# Altium schematic symbol library kmilo17pet-TI_MSP430.SchLib: 1463 symbols (part 124 of 130)
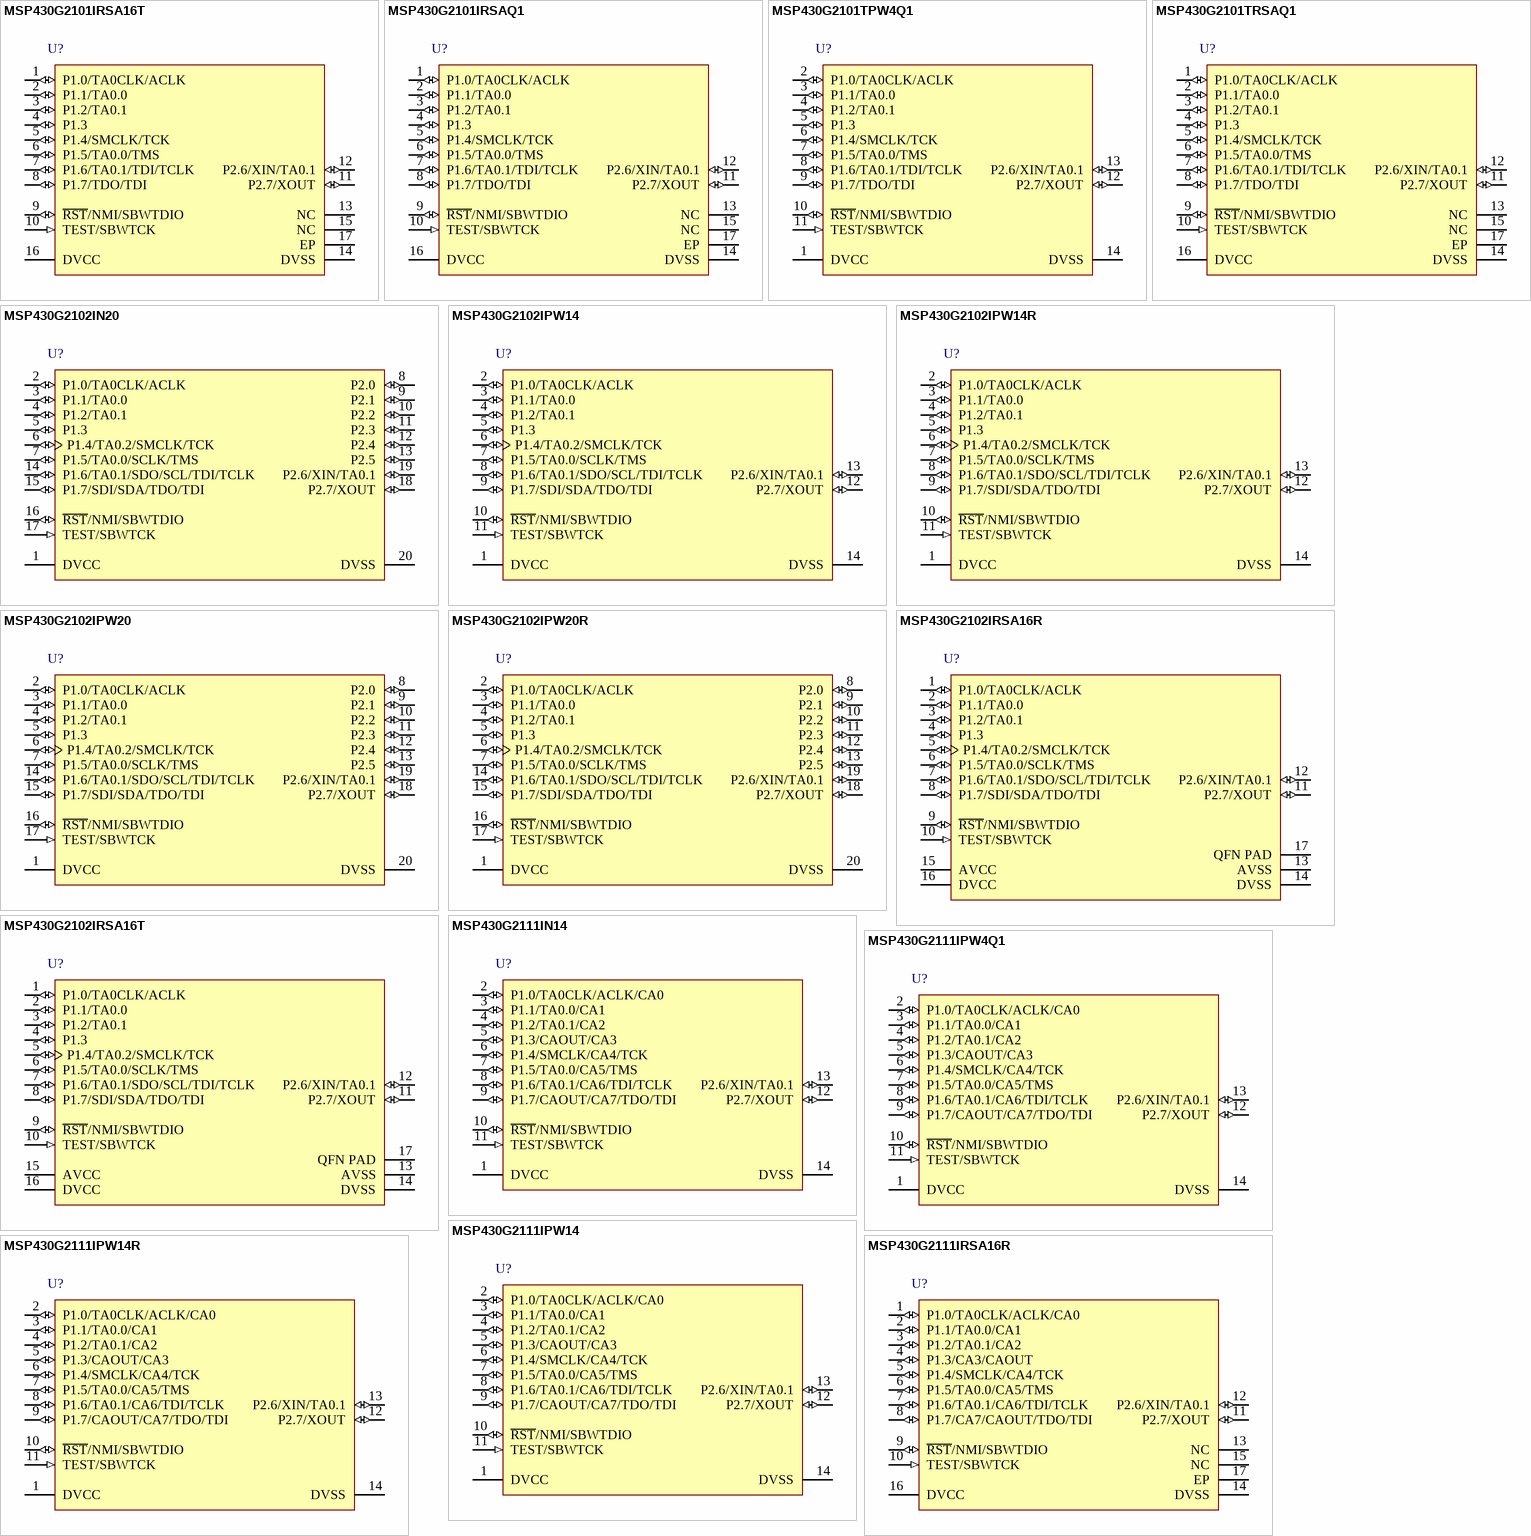
[diagram p397: symbols MSP430G2101IRSA16T to MSP430G2111IRSA16R]

## MSP430G2101TPW4Q1
designator U?
16 MHz Automotive Mixed Signal Microcontroller with 1 KB Flash, 128 B SRAM and 10 GPIOs, -40 to 105 degC, 14-pin TSSOP (PW); Manufacturer: Texas Instruments; PartNumber: MSP430G2101TPW4Q1; Brown Out Reset: Yes; Flash(KB): 1; Frequency(MHz): 16; GPIO: 10; SRAM(B): 128; USI: (I2C/SPI); DatasheetVersion: SLAS695G; PackageVersion: 4040064-3/G; PackageReference: PW14; PackageDescription: 14-Pin Plastic Small Outline, Body 5 x 4.4 mm, 0.65 mm Pitch; Supplier 1: Mouser; Supplier Part Number 1: N/A; SubFamily: Automotive; Timers - 16-bit: 1; Watchdog: Yes; Mounting Technology: Surface Mount; Code_JEDEC: MO-153; ComponentLink1Description: Manufacturer URL; ComponentLink1URL: http://www.ti.com/; ComponentLink2Description: Datasheet; ComponentLink2URL: http://www.ti.com/lit/ds/symlink/msp430g2001.pdf; ComponentLink3Description: Package Specification; ComponentLink3URL: http://www.ti.com/litv/pdf/mpds360
footprint TI-PW14_N (SOP, 14-Leads, Body 5x4.4mm, Pitch 0.65mm, IPC Medium Density)
pins: 1 DVCC (power) "Supply voltage", 2 P1.0/TA0CLK/ACLK (io) "General-purpose digital I/O pin Timer0_A, clock signal TACLK input ACLK signal output Comparator_A+, CA0 input", 3 P1.1/TA0.0 (io) "General-purpose digital I/O pin Timer0_A, capture: CCI0A input, compare: Out0 output Comparator_A+, CA1 input", 4 P1.2/TA0.1 (io) "General-purpose digital I/O pin Timer0_A, capture: CCI1A input, compare: Out1 output Comparator_A+, CA2 inp", 5 P1.3 (io) "General-purpose digital I/O pin Comparator_A+, CA3 input Comparator_A+, output", 6 P1.4/SMCLK/TCK (io) "General-purpose digital I/O pin SMCLK signal output Comparator_A+, CA4 input JTAG test clock, input terminal for device programming and test", 7 P1.5/TA0.0/TMS (io) "General-purpose digital I/O pin Timer0_A, compare: Out0 output Comparator_A+, CA5 input JTAG test mode select, input terminal for device programming and test", 8 P1.6/TA0.1/TDI/TCLK (io) "General-purpose digital I/O pin Timer0_A, compare: Out1 output Comparator_A+, CA6 input JTAG test data input or test clock input during programming and test", 9 P1.7/TDO/TDI (io) "General-purpose digital I/O pin CA7 input Comparator_A+, output JTAG test data output terminal or test data input during programming and test", 10 ~{RST}/NMI/SBWTDIO (io) "Reset Nonmaskable interrupt input Spy-Bi-Wire test data input/output during programming and test", 11 TEST/SBWTCK (in) "Selects test mode for JTAG pins on Port 1. The device protection fuse is connected to TEST. Spy-Bi-Wire test clock input during programming and test", 12 P2.7/XOUT (io) "Output terminal of crystal oscillator General-purpose digital I/O pin", 13 P2.6/XIN/TA0.1 (io) "Input terminal of crystal oscillator General-purpose digital I/O pin Timer0_A, compare: Out1 output", 14 DVSS (power) "Ground reference"

## MSP430G2101TRSAQ1
designator U?
16 MHz Automotive Mixed Signal Microcontroller with 1 KB Flash, 128 B SRAM and 10 GPIOs, -40 to 105 degC, 16-pin QFN (RSA); Manufacturer: Texas Instruments; PartNumber: MSP430G2101TRSAQ1; Brown Out Reset: Yes; Eco-Plan: TBD; Flash(KB): 1; Frequency(MHz): 16; GPIO: 10; SRAM(B): 128; USI: (I2C/SPI); DatasheetVersion: SLAS695G; PackageVersion: revD, Jun-2011; PackageReference: RSA16-2700X2700TP; PackageDescription: 16-Pin Plastic Quad Flatpack No-Lead 0.65 mm Pitch; Supplier 1: Mouser; Supplier Part Number 1: N/A; SubFamily: Automotive; Timers - 16-bit: 1; Watchdog: Yes; Mounting Technology: Surface Mount; Code_JEDEC: MO-220; ComponentLink1Description: Manufacturer URL; ComponentLink1URL: http://www.ti.com/; ComponentLink2Description: Datasheet; ComponentLink2URL: http://www.ti.com/lit/ds/symlink/msp430g2001.pdf; ComponentLink3Description: Package Specification; ComponentLink3URL: http://www.ti.com/litv/pdf/mpqf145c
footprint TI-RSA16-2700X2700TP (QFN, 16-Leads, Body 4x4mm, Pitch 0.65mm, Thermal Pad 2.7x2.7mm, TI Recommended)
pins: 1 P1.0/TA0CLK/ACLK (io), 2 P1.1/TA0.0 (io), 3 P1.2/TA0.1 (io), 4 P1.3 (io) "General-purpose digital I/O pin", 5 P1.4/SMCLK/TCK (io), 6 P1.5/TA0.0/TMS (io), 7 P1.6/TA0.1/TDI/TCLK (io), 8 P1.7/TDO/TDI (io), 9 ~{RST}/NMI/SBWTDIO (io), 10 TEST/SBWTCK (in), 11 P2.7/XOUT (io), 12 P2.6/XIN/TA0.1 (io), 13 NC "Not connected", 14 DVSS (power) "Ground reference", 15 NC "Not connected", 16 DVCC (power) "Supply voltage", 17 EP (power) "QFN package pad connection to VSS recommended."

## MSP430G2102IN20
designator U?
16 MHz Mixed Signal Microcontroller with 1 KB Flash, 256 B SRAM and 16 GPIOs, 20-pin DIP (N), Pb-Free (RoHS); Manufacturer: Texas Instruments; PartNumber: MSP430G2102IN20; Brown Out Reset: Yes; Flash(KB): 1; Frequency(MHz): 16; SRAM(B): 256; SubFamily: Value Line; USI: (I2C/SPI); DatasheetVersion: SLAS723F; PackageVersion: 4040049/E; PackageReference: N20; PackageDescription: 20-Pin Plastic In-Line, Body 25.40 x 6.35 mm, Pitch 2.54 mm; Supplier 1: Digi-Key; Supplier Part Number 1: 296-28309-2-ND; Supplier 2: Digi-Key; Supplier Part Number 2: 296-28309-1-ND; Supplier 3: Digi-Key; Supplier Part Number 3: 296-28309-6-ND; Supplier 4: Mouser; Supplier Part Number 4: 595-MSP430FW429IPMR; Cap touch I/O: Yes; Eco-Plan: Pb-Free (RoHS); GPIO: 16; Timers - 16-bit: 1; Watchdog: Yes; Mounting Technology: Through Hole; Code_JEDEC: MS-001; ComponentLink1Description: Manufacturer URL; ComponentLink1URL: http://www.ti.com/; ComponentLink2Description: Datasheet; ComponentLink2URL: http://www.ti.com/general/docs/lit/getliterature.tsp?genericPartNumber=MSP430G2102&fileType=pdf; ComponentLink3Description: Package Specification; ComponentLink3URL: http://www.ti.com/litv/pdf/mpds177g
footprint TI-N20 (DIP, 20-Leads, Body 25.4x6.35 mm, Pitch 2.54 mm)
pins: 1 DVCC (power) "Supply voltage", 2 P1.0/TA0CLK/ACLK (io), 3 P1.1/TA0.0 (io), 4 P1.2/TA0.1 (io), 5 P1.3 (io) "General-purpose digital I/O pin", 6 P1.4/TA0.2/SMCLK/TCK (io), 7 P1.5/TA0.0/SCLK/TMS (io), 8 P2.0 (io) "General-purpose digital I/O pin", 9 P2.1 (io) "General-purpose digital I/O pin", 10 P2.2 (io) "General-purpose digital I/O pin", 11 P2.3 (io) "General-purpose digital I/O pin", 12 P2.4 (io) "General-purpose digital I/O pin", 13 P2.5 (io) "General-purpose digital I/O pin", 14 P1.6/TA0.1/SDO/SCL/TDI/TCLK (io), 15 P1.7/SDI/SDA/TDO/TDI (io), 16 ~{RST}/NMI/SBWTDIO (io), 17 TEST/SBWTCK (in), 18 P2.7/XOUT (io), 19 P2.6/XIN/TA0.1 (io), 20 DVSS (power) "Ground reference"

## MSP430G2102IPW14
designator U?
16 MHz Mixed Signal Microcontroller with 1 KB Flash, 256 B SRAM and 16 GPIOs, 14-pin SOP (PW), Green (RoHS & no Sb/Br); Manufacturer: Texas Instruments; PartNumber: MSP430G2102IPW14; Brown Out Reset: Yes; Flash(KB): 1; Frequency(MHz): 16; SRAM(B): 256; SubFamily: Value Line; USI: (I2C/SPI); DatasheetVersion: SLAS723F; PackageVersion: 4040064-3/G; PackageReference: PW14; PackageDescription: 14-Pin Plastic Small Outline, Body 5 x 4.4 mm, 0.65 mm Pitch; Supplier 1: Digi-Key; Supplier Part Number 1: 296-29639-5-ND; Supplier 2: Farnell; Supplier Part Number 2: 1866829; Supplier 3: Newark; Supplier Part Number 3: 47T2225; Supplier 4: Newark; Supplier Part Number 4: 24T4630; Supplier 5: Mouser; Supplier Part Number 5: 595-MSP430G2102IN20; Cap touch I/O: Yes; Eco-Plan: Green (RoHS & no Sb/Br); GPIO: 16; Timers - 16-bit: 1; Watchdog: Yes; Mounting Technology: Surface Mount; Code_JEDEC: MO-153; ComponentLink1Description: Manufacturer URL; ComponentLink1URL: http://www.ti.com/; ComponentLink2Description: Datasheet; ComponentLink2URL: http://www.ti.com/general/docs/lit/getliterature.tsp?genericPartNumber=MSP430G2102&fileType=pdf; ComponentLink3Description: Package Specification; ComponentLink3URL: http://www.ti.com/litv/pdf/mpds360
footprint TI-PW14_N (SOP, 14-Leads, Body 5x4.4mm, Pitch 0.65mm, IPC Medium Density)
pins: 1 DVCC (power) "Supply voltage", 2 P1.0/TA0CLK/ACLK (io), 3 P1.1/TA0.0 (io), 4 P1.2/TA0.1 (io), 5 P1.3 (io) "General-purpose digital I/O pin", 6 P1.4/TA0.2/SMCLK/TCK (io), 7 P1.5/TA0.0/SCLK/TMS (io), 8 P1.6/TA0.1/SDO/SCL/TDI/TCLK (io), 9 P1.7/SDI/SDA/TDO/TDI (io), 10 ~{RST}/NMI/SBWTDIO (io), 11 TEST/SBWTCK (in), 12 P2.7/XOUT (io), 13 P2.6/XIN/TA0.1 (io), 14 DVSS (power) "Ground reference"

## MSP430G2102IPW14R
designator U?
16 MHz Mixed Signal Microcontroller with 1 KB Flash, 256 B SRAM and 16 GPIOs, 14-pin SOP (PW), Green (RoHS & no Sb/Br); Manufacturer: Texas Instruments; PartNumber: MSP430G2102IPW14R; Brown Out Reset: Yes; Flash(KB): 1; Frequency(MHz): 16; SRAM(B): 256; SubFamily: Value Line; USI: (I2C/SPI); DatasheetVersion: SLAS723F; PackageVersion: 4040064-3/G; PackageReference: PW14; PackageDescription: 14-Pin Plastic Small Outline, Body 5 x 4.4 mm, 0.65 mm Pitch; Supplier 1: Digi-Key; Supplier Part Number 1: 296-29640-5-ND; Supplier 2: Farnell; Supplier Part Number 2: 1866830; Supplier 3: Newark; Supplier Part Number 3: 24T4631; Supplier 4: Mouser; Supplier Part Number 4: 595-MSP430G2102IPW14; Cap touch I/O: Yes; Eco-Plan: Green (RoHS & no Sb/Br); GPIO: 16; Timers - 16-bit: 1; Watchdog: Yes; Mounting Technology: Surface Mount; Code_JEDEC: MO-153; ComponentLink1Description: Manufacturer URL; ComponentLink1URL: http://www.ti.com/; ComponentLink2Description: Datasheet; ComponentLink2URL: http://www.ti.com/general/docs/lit/getliterature.tsp?genericPartNumber=MSP430G2102&fileType=pdf; ComponentLink3Description: Package Specification; ComponentLink3URL: http://www.ti.com/litv/pdf/mpds360
footprint TI-PW14_N (SOP, 14-Leads, Body 5x4.4mm, Pitch 0.65mm, IPC Medium Density)
pins: 1 DVCC (power) "Supply voltage", 2 P1.0/TA0CLK/ACLK (io), 3 P1.1/TA0.0 (io), 4 P1.2/TA0.1 (io), 5 P1.3 (io) "General-purpose digital I/O pin", 6 P1.4/TA0.2/SMCLK/TCK (io), 7 P1.5/TA0.0/SCLK/TMS (io), 8 P1.6/TA0.1/SDO/SCL/TDI/TCLK (io), 9 P1.7/SDI/SDA/TDO/TDI (io), 10 ~{RST}/NMI/SBWTDIO (io), 11 TEST/SBWTCK (in), 12 P2.7/XOUT (io), 13 P2.6/XIN/TA0.1 (io), 14 DVSS (power) "Ground reference"

## MSP430G2102IPW20
designator U?
16 MHz Mixed Signal Microcontroller with 1 KB Flash, 256 B SRAM and 16 GPIOs, 20-pin SOP (PW), Green (RoHS & no Sb/Br); Manufacturer: Texas Instruments; PartNumber: MSP430G2102IPW20; Brown Out Reset: Yes; Flash(KB): 1; Frequency(MHz): 16; SRAM(B): 256; SubFamily: Value Line; USI: (I2C/SPI); DatasheetVersion: SLAS723F; PackageVersion: 4040064-5/G; PackageReference: PW20; PackageDescription: 20-Pin Plastic Small Outline, Body 6.5 x 4.4 mm, 0.65 mm Pitch; Supplier 1: Digi-Key; Supplier Part Number 1: MSP430G2102IPW14R-ND; Supplier 2: Mouser; Supplier Part Number 2: 595-SP430G2102IPW14R; Cap touch I/O: Yes; Eco-Plan: Green (RoHS & no Sb/Br); GPIO: 16; Timers - 16-bit: 1; Watchdog: Yes; Mounting Technology: Surface Mount; Code_JEDEC: MO-153; ComponentLink1Description: Manufacturer URL; ComponentLink1URL: http://www.ti.com/; ComponentLink2Description: Datasheet; ComponentLink2URL: http://www.ti.com/general/docs/lit/getliterature.tsp?genericPartNumber=MSP430G2102&fileType=pdf; ComponentLink3Description: Package Specification; ComponentLink3URL: http://www.ti.com.cn/cn/lit/ml/mpds362/mpds362.pdf
footprint TI-PW20_N (SOP, 20-Leads, Body 6.5x4.4mm, Pitch 0.65mm, IPC Medium Density)
pins: 1 DVCC (power) "Supply voltage", 2 P1.0/TA0CLK/ACLK (io), 3 P1.1/TA0.0 (io), 4 P1.2/TA0.1 (io), 5 P1.3 (io) "General-purpose digital I/O pin", 6 P1.4/TA0.2/SMCLK/TCK (io), 7 P1.5/TA0.0/SCLK/TMS (io), 8 P2.0 (io) "General-purpose digital I/O pin", 9 P2.1 (io) "General-purpose digital I/O pin", 10 P2.2 (io) "General-purpose digital I/O pin", 11 P2.3 (io) "General-purpose digital I/O pin", 12 P2.4 (io) "General-purpose digital I/O pin", 13 P2.5 (io) "General-purpose digital I/O pin", 14 P1.6/TA0.1/SDO/SCL/TDI/TCLK (io), 15 P1.7/SDI/SDA/TDO/TDI (io), 16 ~{RST}/NMI/SBWTDIO (io), 17 TEST/SBWTCK (in), 18 P2.7/XOUT (io), 19 P2.6/XIN/TA0.1 (io), 20 DVSS (power) "Ground reference"

## MSP430G2102IPW20R
designator U?
16 MHz Mixed Signal Microcontroller with 1 KB Flash, 256 B SRAM and 16 GPIOs, 20-pin SOP (PW), Green (RoHS & no Sb/Br); Manufacturer: Texas Instruments; PartNumber: MSP430G2102IPW20R; Brown Out Reset: Yes; Flash(KB): 1; Frequency(MHz): 16; SRAM(B): 256; SubFamily: Value Line; USI: (I2C/SPI); DatasheetVersion: SLAS723F; PackageVersion: 4040064-5/G; PackageReference: PW20; PackageDescription: 20-Pin Plastic Small Outline, Body 6.5 x 4.4 mm, 0.65 mm Pitch; Supplier 1: Digi-Key; Supplier Part Number 1: 296-29641-5-ND; Supplier 2: Farnell; Supplier Part Number 2: 1866831; Supplier 3: Newark; Supplier Part Number 3: 24T4632; Supplier 4: Mouser; Supplier Part Number 4: 595-MSP430G2102IPW20; Cap touch I/O: Yes; Eco-Plan: Green (RoHS & no Sb/Br); GPIO: 16; Timers - 16-bit: 1; Watchdog: Yes; Mounting Technology: Surface Mount; Code_JEDEC: MO-153; ComponentLink1Description: Manufacturer URL; ComponentLink1URL: http://www.ti.com/; ComponentLink2Description: Datasheet; ComponentLink2URL: http://www.ti.com/general/docs/lit/getliterature.tsp?genericPartNumber=MSP430G2102&fileType=pdf; ComponentLink3Description: Package Specification; ComponentLink3URL: http://www.ti.com.cn/cn/lit/ml/mpds362/mpds362.pdf
footprint TI-PW20_N (SOP, 20-Leads, Body 6.5x4.4mm, Pitch 0.65mm, IPC Medium Density)
pins: 1 DVCC (power) "Supply voltage", 2 P1.0/TA0CLK/ACLK (io), 3 P1.1/TA0.0 (io), 4 P1.2/TA0.1 (io), 5 P1.3 (io) "General-purpose digital I/O pin", 6 P1.4/TA0.2/SMCLK/TCK (io), 7 P1.5/TA0.0/SCLK/TMS (io), 8 P2.0 (io) "General-purpose digital I/O pin", 9 P2.1 (io) "General-purpose digital I/O pin", 10 P2.2 (io) "General-purpose digital I/O pin", 11 P2.3 (io) "General-purpose digital I/O pin", 12 P2.4 (io) "General-purpose digital I/O pin", 13 P2.5 (io) "General-purpose digital I/O pin", 14 P1.6/TA0.1/SDO/SCL/TDI/TCLK (io), 15 P1.7/SDI/SDA/TDO/TDI (io), 16 ~{RST}/NMI/SBWTDIO (io), 17 TEST/SBWTCK (in), 18 P2.7/XOUT (io), 19 P2.6/XIN/TA0.1 (io), 20 DVSS (power) "Ground reference"

## MSP430G2102IRSA16R
designator U?
16 MHz Mixed Signal Microcontroller with 1 KB Flash, 256 B SRAM and 16 GPIOs, 16-pin QFN (RSA), Green (RoHS & no Sb/Br); Manufacturer: Texas Instruments; PartNumber: MSP430G2102IRSA16R; Brown Out Reset: Yes; Flash(KB): 1; Frequency(MHz): 16; SRAM(B): 256; SubFamily: Value Line; USI: (I2C/SPI); DatasheetVersion: SLAS723F; PackageVersion: 4205141/D; PackageReference: RSA16-2700X2700TP; PackageDescription: 16-Pin Plastic Flat Pack, Body 4.00 x 4.00 mm, Pitch 0.65 mm; Supplier 1: Digi-Key; Supplier Part Number 1: MSP430G2102IPW20R-ND; Supplier 2: Mouser; Supplier Part Number 2: 595-SP430G2102IPW20R; Cap touch I/O: Yes; Eco-Plan: Green (RoHS & no Sb/Br); GPIO: 16; Timers - 16-bit: 1; Watchdog: Yes; Mounting Technology: Surface Mount; Code_JEDEC: MO-220; ComponentLink1Description: Manufacturer URL; ComponentLink1URL: http://www.ti.com/; ComponentLink2Description: Datasheet; ComponentLink2URL: http://www.ti.com/general/docs/lit/getliterature.tsp?genericPartNumber=MSP430G2102&fileType=pdf; ComponentLink3Description: Package Specification; ComponentLink3URL: http://www.ti.com/litv/pdf/mpqf145c
footprint TI-RSA16-2700X2700TP_N (QFN, 16-Leads, Body 4x4mm, Pitch 0.65mm, Thermal Pad 2.7x2.7mm, IPC Medium Density)
pins: 1 P1.0/TA0CLK/ACLK (io), 2 P1.1/TA0.0 (io), 3 P1.2/TA0.1 (io), 4 P1.3 (io) "General-purpose digital I/O pin", 5 P1.4/TA0.2/SMCLK/TCK (io), 6 P1.5/TA0.0/SCLK/TMS (io), 7 P1.6/TA0.1/SDO/SCL/TDI/TCLK (io), 8 P1.7/SDI/SDA/TDO/TDI (io), 9 ~{RST}/NMI/SBWTDIO (io), 10 TEST/SBWTCK (in), 11 P2.7/XOUT (io), 12 P2.6/XIN/TA0.1 (io), 13 AVSS (power) "Ground reference", 14 DVSS (power) "Ground reference", 15 AVCC (power) "Supply voltage", 16 DVCC (power) "Supply voltage", 17 QFN PAD (power) "QFN package pad connection to VSS recommended."

## MSP430G2102IRSA16T
designator U?
16 MHz Mixed Signal Microcontroller with 1 KB Flash, 256 B SRAM and 16 GPIOs, 16-pin QFN (RSA), Green (RoHS & no Sb/Br); Manufacturer: Texas Instruments; PartNumber: MSP430G2102IRSA16T; Brown Out Reset: Yes; Flash(KB): 1; Frequency(MHz): 16; SRAM(B): 256; SubFamily: Value Line; USI: (I2C/SPI); DatasheetVersion: SLAS723F; PackageVersion: 4205141/D; PackageReference: RSA16-2700X2700TP; PackageDescription: 16-Pin Plastic Flat Pack, Body 4.00 x 4.00 mm, Pitch 0.65 mm; Supplier 1: Digi-Key; Supplier Part Number 1: MSP430G2102IRSA16R-ND; Supplier 2: Mouser; Supplier Part Number 2: 595-P430G2102IRSA16R; Cap touch I/O: Yes; Eco-Plan: Green (RoHS & no Sb/Br); GPIO: 16; Timers - 16-bit: 1; Watchdog: Yes; Mounting Technology: Surface Mount; Code_JEDEC: MO-220; ComponentLink1Description: Manufacturer URL; ComponentLink1URL: http://www.ti.com/; ComponentLink2Description: Datasheet; ComponentLink2URL: http://www.ti.com/general/docs/lit/getliterature.tsp?genericPartNumber=MSP430G2102&fileType=pdf; ComponentLink3Description: Package Specification; ComponentLink3URL: http://www.ti.com/litv/pdf/mpqf145c
footprint TI-RSA16-2700X2700TP_N (QFN, 16-Leads, Body 4x4mm, Pitch 0.65mm, Thermal Pad 2.7x2.7mm, IPC Medium Density)
pins: 1 P1.0/TA0CLK/ACLK (io), 2 P1.1/TA0.0 (io), 3 P1.2/TA0.1 (io), 4 P1.3 (io) "General-purpose digital I/O pin", 5 P1.4/TA0.2/SMCLK/TCK (io), 6 P1.5/TA0.0/SCLK/TMS (io), 7 P1.6/TA0.1/SDO/SCL/TDI/TCLK (io), 8 P1.7/SDI/SDA/TDO/TDI (io), 9 ~{RST}/NMI/SBWTDIO (io), 10 TEST/SBWTCK (in), 11 P2.7/XOUT (io), 12 P2.6/XIN/TA0.1 (io), 13 AVSS (power) "Ground reference", 14 DVSS (power) "Ground reference", 15 AVCC (power) "Supply voltage", 16 DVCC (power) "Supply voltage", 17 QFN PAD (power) "QFN package pad connection to VSS recommended."

## MSP430G2111IN14
designator U?
16 MHz Mixed Signal Microcontroller with 1 KB Flash, 128 B SRAM and 10 GPIOs, -40 to 85 degC, 14-pin PDIP (N), Pb-Free (RoHS); Manufacturer: Texas Instruments; PartNumber: MSP430G2111IN14; ADC: Slope; Brown Out Reset: Yes; Flash(KB): 1; Frequency(MHz): 16; GPIO: 10; SRAM(B): 128; SubFamily: Value Line; DatasheetVersion: SLAS695G; PackageVersion: 4040049/E; PackageReference: N14; PackageDescription: 14-Pin Plastic In-Line, Body 19.305 x 6.35 mm, Pitch 2.54 mm; Supplier 1: Digi-Key; Supplier Part Number 1: 296-27679-5-ND; Supplier 2: Farnell; Supplier Part Number 2: 1866833; Supplier 3: Newark; Supplier Part Number 3: 47T2229; Supplier 4: Mouser; Supplier Part Number 4: 595-MSP430G2111IN14; Comparators: Yes; Eco-Plan: Pb-Free (RoHS); Timers - 16-bit: 1; Watchdog: Yes; Mounting Technology: Through Hole; Code_JEDEC: MS-001; ComponentLink1Description: Manufacturer URL; ComponentLink1URL: http://www.ti.com/; ComponentLink2Description: Datasheet; ComponentLink2URL: http://www.ti.com/lit/ds/symlink/msp430g2001.pdf; ComponentLink3Description: Package Specification; ComponentLink3URL: http://www.ti.com/litv/pdf/mplc004a
footprint TI-N14 (DIP, 14-Leads, Body 19.305x6.35 mm, Pitch 2.54 mm)
pins: 1 DVCC (power) "Supply voltage", 2 P1.0/TA0CLK/ACLK/CA0 (io), 3 P1.1/TA0.0/CA1 (io), 4 P1.2/TA0.1/CA2 (io), 5 P1.3/CAOUT/CA3 (io), 6 P1.4/SMCLK/CA4/TCK (io), 7 P1.5/TA0.0/CA5/TMS (io), 8 P1.6/TA0.1/CA6/TDI/TCLK (io), 9 P1.7/CAOUT/CA7/TDO/TDI (io), 10 ~{RST}/NMI/SBWTDIO (io), 11 TEST/SBWTCK (in), 12 P2.7/XOUT (io), 13 P2.6/XIN/TA0.1 (io), 14 DVSS (power) "Ground reference"

## MSP430G2111IPW4Q1
designator U?
16 MHz Automotive Mixed Signal Microcontroller with 1 KB Flash, 128 B SRAM and 10 GPIOs, -40 to 85 degC, 14-pin TSSOP (PW), Green (RoHS & no Sb/Br); Manufacturer: Texas Instruments; PartNumber: MSP430G2111IPW4Q1; ADC: Slope; Brown Out Reset: Yes; Flash(KB): 1; Frequency(MHz): 16; GPIO: 10; SRAM(B): 128; SubFamily: Value Line; USI: (I2C/SPI); DatasheetVersion: SLAS695G; PackageVersion: 4040064-3/G; PackageReference: PW14; PackageDescription: 14-Pin Plastic Small Outline, Body 5 x 4.4 mm, 0.65 mm Pitch; Supplier 1: Digi-Key; Supplier Part Number 1: MSP430G2111IPW4Q1-ND; Supplier 2: Mouser; Supplier Part Number 2: 595-SP430G2111IPW4Q1; Comparators: Yes; Eco-Plan: Green (RoHS & no Sb/Br); Timers - 16-bit: 1; Watchdog: Yes; Mounting Technology: Surface Mount; Code_JEDEC: MO-153; ComponentLink1Description: Manufacturer URL; ComponentLink1URL: http://www.ti.com/; ComponentLink2Description: Datasheet; ComponentLink2URL: http://www.ti.com/lit/ds/symlink/msp430g2001.pdf; ComponentLink3Description: Package Specification; ComponentLink3URL: http://www.ti.com/litv/pdf/mpds360
footprint TI-PW14_N (SOP, 14-Leads, Body 5x4.4mm, Pitch 0.65mm, IPC Medium Density)
pins: 1 DVCC (power) "Supply voltage", 2 P1.0/TA0CLK/ACLK/CA0 (io), 3 P1.1/TA0.0/CA1 (io), 4 P1.2/TA0.1/CA2 (io), 5 P1.3/CAOUT/CA3 (io), 6 P1.4/SMCLK/CA4/TCK (io), 7 P1.5/TA0.0/CA5/TMS (io), 8 P1.6/TA0.1/CA6/TDI/TCLK (io), 9 P1.7/CAOUT/CA7/TDO/TDI (io), 10 ~{RST}/NMI/SBWTDIO (io), 11 TEST/SBWTCK (in), 12 P2.7/XOUT (io), 13 P2.6/XIN/TA0.1 (io), 14 DVSS (power) "Ground reference"

## MSP430G2111IPW14
designator U?
16 MHz Mixed Signal Microcontroller with 1 KB Flash, 128 B SRAM and 10 GPIOs, -40 to 85 degC, 14-pin TSSOP (PW), Green (RoHS & no Sb/Br); Manufacturer: Texas Instruments; PartNumber: MSP430G2111IPW14; ADC: Slope; Brown Out Reset: Yes; Flash(KB): 1; Frequency(MHz): 16; GPIO: 10; SRAM(B): 128; SubFamily: Value Line; DatasheetVersion: SLAS695G; PackageVersion: 4040064-3/G; PackageReference: PW14; PackageDescription: 14-Pin Plastic Small Outline, Body 5 x 4.4 mm, 0.65 mm Pitch; Supplier 1: Digi-Key; Supplier Part Number 1: MSP430G2111IPW14-ND; Supplier 2: Farnell; Supplier Part Number 2: 1866834; Supplier 3: Newark; Supplier Part Number 3: 47T2230; Supplier 4: Newark; Supplier Part Number 4: 72R5895; Supplier 5: Mouser; Supplier Part Number 5: 595-MSP430G2111IPW14; Comparators: Yes; Eco-Plan: Green (RoHS & no Sb/Br); Timers - 16-bit: 1; Watchdog: Yes; Mounting Technology: Surface Mount; Code_JEDEC: MO-153; ComponentLink1Description: Manufacturer URL; ComponentLink1URL: http://www.ti.com/; ComponentLink2Description: Datasheet; ComponentLink2URL: http://www.ti.com/lit/ds/symlink/msp430g2001.pdf; ComponentLink3Description: Package Specification; ComponentLink3URL: http://www.ti.com/litv/pdf/mpds360
footprint TI-PW14_N (SOP, 14-Leads, Body 5x4.4mm, Pitch 0.65mm, IPC Medium Density)
pins: 1 DVCC (power) "Supply voltage", 2 P1.0/TA0CLK/ACLK/CA0 (io), 3 P1.1/TA0.0/CA1 (io), 4 P1.2/TA0.1/CA2 (io), 5 P1.3/CAOUT/CA3 (io), 6 P1.4/SMCLK/CA4/TCK (io), 7 P1.5/TA0.0/CA5/TMS (io), 8 P1.6/TA0.1/CA6/TDI/TCLK (io), 9 P1.7/CAOUT/CA7/TDO/TDI (io), 10 ~{RST}/NMI/SBWTDIO (io), 11 TEST/SBWTCK (in), 12 P2.7/XOUT (io), 13 P2.6/XIN/TA0.1 (io), 14 DVSS (power) "Ground reference"

## MSP430G2111IPW14R
designator U?
16 MHz Mixed Signal Microcontroller with 1 KB Flash, 128 B SRAM and 10 GPIOs, 14-pin TSSOP (PW), Green (RoHS & no Sb/Br); Manufacturer: Texas Instruments; PartNumber: MSP430G2111IPW14R; ADC: Slope; Brown Out Reset: Yes; Flash(KB): 1; Frequency(MHz): 16; GPIO: 10; SRAM(B): 128; SubFamily: Value Line; DatasheetVersion: SLAS695G; PackageVersion: 4040064-3/G; PackageReference: PW14; PackageDescription: 14-Pin Plastic Small Outline, Body 5 x 4.4 mm, 0.65 mm Pitch; Supplier 1: Digi-Key; Supplier Part Number 1: 296-27678-2-ND; Supplier 2: Digi-Key; Supplier Part Number 2: 296-27678-1-ND; Supplier 3: Digi-Key; Supplier Part Number 3: 296-27678-6-ND; Supplier 4: Newark; Supplier Part Number 4: 74R6482; Supplier 5: Mouser; Supplier Part Number 5: 595-SP430G2111IPW14R; Comparators: Yes; Eco-Plan: Green (RoHS & no Sb/Br); Timers - 16-bit: 1; Watchdog: Yes; Mounting Technology: Surface Mount; Code_JEDEC: MO-153; ComponentLink1Description: Manufacturer URL; ComponentLink1URL: http://www.ti.com/; ComponentLink2Description: Datasheet; ComponentLink2URL: http://www.ti.com/lit/ds/symlink/msp430g2001.pdf; ComponentLink3Description: Package Specification; ComponentLink3URL: http://www.ti.com/litv/pdf/mpds360
footprint TI-PW14_N (SOP, 14-Leads, Body 5x4.4mm, Pitch 0.65mm, IPC Medium Density)
pins: 1 DVCC (power) "Supply voltage", 2 P1.0/TA0CLK/ACLK/CA0 (io), 3 P1.1/TA0.0/CA1 (io), 4 P1.2/TA0.1/CA2 (io), 5 P1.3/CAOUT/CA3 (io), 6 P1.4/SMCLK/CA4/TCK (io), 7 P1.5/TA0.0/CA5/TMS (io), 8 P1.6/TA0.1/CA6/TDI/TCLK (io), 9 P1.7/CAOUT/CA7/TDO/TDI (io), 10 ~{RST}/NMI/SBWTDIO (io), 11 TEST/SBWTCK (in), 12 P2.7/XOUT (io), 13 P2.6/XIN/TA0.1 (io), 14 DVSS (power) "Ground reference"

## MSP430G2111IRSA16R
designator U?
16 MHz Mixed Signal Microcontroller with 1 KB Flash, 128 B SRAM and 10 GPIOs, 16-pin QFN (RSA), Green (RoHS & no Sb/Br); Manufacturer: Texas Instruments; PartNumber: MSP430G2111IRSA16R; ADC: Slope; Brown Out Reset: Yes; Flash(KB): 1; Frequency(MHz): 16; GPIO: 10; SRAM(B): 128; SubFamily: Value Line; DatasheetVersion: SLAS695G; PackageVersion: revD, Jun-2011; PackageReference: RSA16-2700X2700TP; PackageDescription: 16-Pin Plastic Quad Flatpack No-Lead 0.65 mm Pitch; Supplier 1: Digi-Key; Supplier Part Number 1: 296-27683-2-ND; Supplier 2: Digi-Key; Supplier Part Number 2: 296-27683-1-ND; Supplier 3: Digi-Key; Supplier Part Number 3: 296-27683-6-ND; Supplier 4: Newark; Supplier Part Number 4: 74R6483; Supplier 5: Mouser; Supplier Part Number 5: 595-P430G2111IRSA16R; Comparators: Yes; Eco-Plan: Green (RoHS & no Sb/Br); Timers - 16-bit: 1; Watchdog: Yes; Mounting Technology: Surface Mount; Code_JEDEC: MO-220; ComponentLink1Description: Manufacturer URL; ComponentLink1URL: http://www.ti.com/; ComponentLink2Description: Datasheet; ComponentLink2URL: http://www.ti.com/lit/ds/symlink/msp430g2001.pdf; ComponentLink3Description: Package Specification; ComponentLink3URL: http://www.ti.com/litv/pdf/mpqf145c
footprint TI-RSA16-2700X2700TP (QFN, 16-Leads, Body 4x4mm, Pitch 0.65mm, Thermal Pad 2.7x2.7mm, TI Recommended)
pins: 1 P1.0/TA0CLK/ACLK/CA0 (io), 2 P1.1/TA0.0/CA1 (io), 3 P1.2/TA0.1/CA2 (io), 4 P1.3/CA3/CAOUT (io), 5 P1.4/SMCLK/CA4/TCK (io), 6 P1.5/TA0.0/CA5/TMS (io), 7 P1.6/TA0.1/CA6/TDI/TCLK (io), 8 P1.7/CA7/CAOUT/TDO/TDI (io), 9 ~{RST}/NMI/SBWTDIO (io), 10 TEST/SBWTCK (in), 11 P2.7/XOUT (io), 12 P2.6/XIN/TA0.1 (io), 13 NC "Not connected", 14 DVSS (power) "Ground reference", 15 NC "Not connected", 16 DVCC (power) "Supply voltage", 17 EP (power) "QFN package pad connection to VSS recommended."

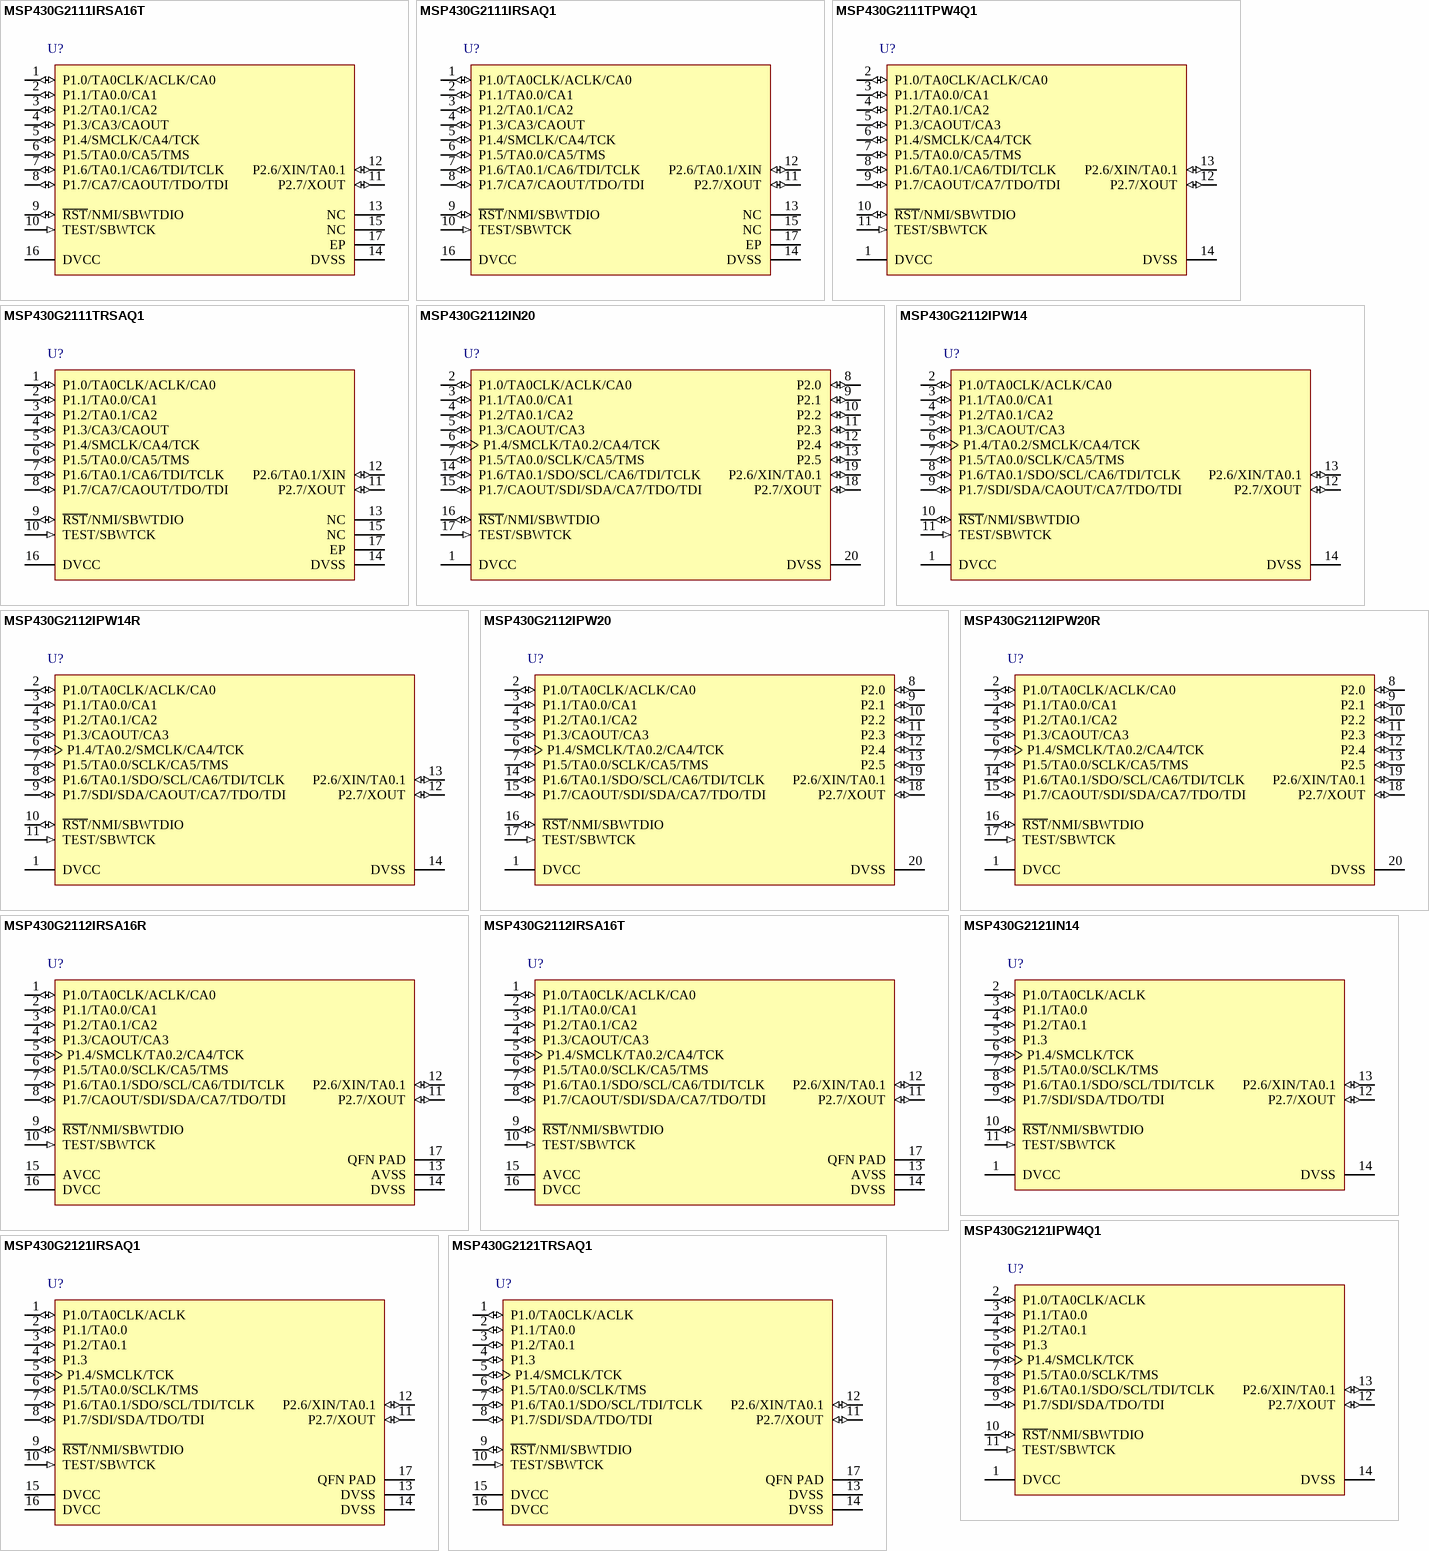
[diagram p213: symbols MSP430G2111IRSA16T to MSP430G2121TRSAQ1]

## MSP430G2111IRSA16T
designator U?
16 MHz Mixed Signal Microcontroller with 1 KB Flash, 128 B SRAM and 10 GPIOs, 16-pin QFN (RSA), Green (RoHS & no Sb/Br); Manufacturer: Texas Instruments; PartNumber: MSP430G2111IRSA16T; ADC: Slope; Brown Out Reset: Yes; Flash(KB): 1; Frequency(MHz): 16; GPIO: 10; SRAM(B): 128; SubFamily: Value Line; DatasheetVersion: SLAS695G; PackageVersion: revD, Jun-2011; PackageReference: RSA16-2700X2700TP; PackageDescription: 16-Pin Plastic Quad Flatpack No-Lead 0.65 mm Pitch; Supplier 1: Digi-Key; Supplier Part Number 1: MSP430G2111IRSA16T-ND; Supplier 2: Farnell; Supplier Part Number 2: 1866835; Supplier 3: Newark; Supplier Part Number 3: 47T2231; Supplier 4: Newark; Supplier Part Number 4: 74R6484; Supplier 5: Mouser; Supplier Part Number 5: 595-P430G2111IRSA16T; Comparators: Yes; Eco-Plan: Green (RoHS & no Sb/Br); Timers - 16-bit: 1; Watchdog: Yes; Mounting Technology: Surface Mount; Code_JEDEC: MO-220; ComponentLink1Description: Manufacturer URL; ComponentLink1URL: http://www.ti.com/; ComponentLink2Description: Datasheet; ComponentLink2URL: http://www.ti.com/lit/ds/symlink/msp430g2001.pdf; ComponentLink3Description: Package Specification; ComponentLink3URL: http://www.ti.com/litv/pdf/mpqf145c
footprint TI-RSA16-2700X2700TP (QFN, 16-Leads, Body 4x4mm, Pitch 0.65mm, Thermal Pad 2.7x2.7mm, TI Recommended)
pins: 1 P1.0/TA0CLK/ACLK/CA0 (io), 2 P1.1/TA0.0/CA1 (io), 3 P1.2/TA0.1/CA2 (io), 4 P1.3/CA3/CAOUT (io), 5 P1.4/SMCLK/CA4/TCK (io), 6 P1.5/TA0.0/CA5/TMS (io), 7 P1.6/TA0.1/CA6/TDI/TCLK (io), 8 P1.7/CA7/CAOUT/TDO/TDI (io), 9 ~{RST}/NMI/SBWTDIO (io), 10 TEST/SBWTCK (in), 11 P2.7/XOUT (io), 12 P2.6/XIN/TA0.1 (io), 13 NC "Not connected", 14 DVSS (power) "Ground reference", 15 NC "Not connected", 16 DVCC (power) "Supply voltage", 17 EP (power) "QFN package pad connection to VSS recommended."

## MSP430G2111IRSAQ1
designator U?
16 MHz Automotive Mixed Signal Microcontroller with 1 KB Flash, 128 B SRAM and 10 GPIOs, -40 to 85 degC, 16-pin QFN (RSA); Manufacturer: Texas Instruments; PartNumber: MSP430G2111IRSAQ1; ADC: Slope; Brown Out Reset: Yes; Eco-Plan: TBD; Flash(KB): 1; Frequency(MHz): 16; GPIO: 10; SRAM(B): 128; SubFamily: Value Line; USI: (I2C/SPI); DatasheetVersion: SLAS695G; PackageVersion: revD, Jun-2011; PackageReference: RSA16-2700X2700TP; PackageDescription: 16-Pin Plastic Quad Flatpack No-Lead 0.65 mm Pitch; Supplier 1: Digi-Key; Supplier Part Number 1: MSP430G2111IRSAQ1-ND; Supplier 2: Mouser; Supplier Part Number 2: 595-SP430G2111IRSAQ1; Comparators: Yes; Timers - 16-bit: 1; Watchdog: Yes; Mounting Technology: Surface Mount; Code_JEDEC: MO-220; ComponentLink1Description: Manufacturer URL; ComponentLink1URL: http://www.ti.com/; ComponentLink2Description: Datasheet; ComponentLink2URL: http://www.ti.com/lit/ds/symlink/msp430g2001.pdf; ComponentLink3Description: Package Specification; ComponentLink3URL: http://www.ti.com/litv/pdf/mpqf145c
footprint TI-RSA16-2700X2700TP (QFN, 16-Leads, Body 4x4mm, Pitch 0.65mm, Thermal Pad 2.7x2.7mm, TI Recommended)
pins: 1 P1.0/TA0CLK/ACLK/CA0 (io), 2 P1.1/TA0.0/CA1 (io), 3 P1.2/TA0.1/CA2 (io), 4 P1.3/CA3/CAOUT (io), 5 P1.4/SMCLK/CA4/TCK (io), 6 P1.5/TA0.0/CA5/TMS (io), 7 P1.6/TA0.1/CA6/TDI/TCLK (io), 8 P1.7/CA7/CAOUT/TDO/TDI (io), 9 ~{RST}/NMI/SBWTDIO (io), 10 TEST/SBWTCK (in), 11 P2.7/XOUT (io), 12 P2.6/TA0.1/XIN (io), 13 NC "Not connected", 14 DVSS (power) "Ground reference", 15 NC "Not connected", 16 DVCC (power) "Supply voltage", 17 EP (power) "QFN package pad connection to VSS recommended."

## MSP430G2111TPW4Q1
designator U?
16 MHz Automotive Mixed Signal Microcontroller with 1 KB Flash, 128 B SRAM and 10 GPIOs, -40 to 105 degC, 14-pin TSSOP (PW), Green (RoHS & no Sb/Br); Manufacturer: Texas Instruments; PartNumber: MSP430G2111TPW4Q1; ADC: Slope; Brown Out Reset: Yes; Flash(KB): 1; Frequency(MHz): 16; GPIO: 10; SRAM(B): 128; SubFamily: Value Line; USI: (I2C/SPI); DatasheetVersion: SLAS695G; PackageVersion: 4040064-3/G; PackageReference: PW14; PackageDescription: 14-Pin Plastic Small Outline, Body 5 x 4.4 mm, 0.65 mm Pitch; Supplier 1: Mouser; Supplier Part Number 1: N/A; Comparators: Yes; Eco-Plan: Green (RoHS & no Sb/Br); Timers - 16-bit: 1; Watchdog: Yes; Mounting Technology: Surface Mount; Code_JEDEC: MO-153; ComponentLink1Description: Manufacturer URL; ComponentLink1URL: http://www.ti.com/; ComponentLink2Description: Datasheet; ComponentLink2URL: http://www.ti.com/lit/ds/symlink/msp430g2001.pdf; ComponentLink3Description: Package Specification; ComponentLink3URL: http://www.ti.com/litv/pdf/mpds360
footprint TI-PW14_N (SOP, 14-Leads, Body 5x4.4mm, Pitch 0.65mm, IPC Medium Density)
pins: 1 DVCC (power) "Supply voltage", 2 P1.0/TA0CLK/ACLK/CA0 (io), 3 P1.1/TA0.0/CA1 (io), 4 P1.2/TA0.1/CA2 (io), 5 P1.3/CAOUT/CA3 (io), 6 P1.4/SMCLK/CA4/TCK (io), 7 P1.5/TA0.0/CA5/TMS (io), 8 P1.6/TA0.1/CA6/TDI/TCLK (io), 9 P1.7/CAOUT/CA7/TDO/TDI (io), 10 ~{RST}/NMI/SBWTDIO (io), 11 TEST/SBWTCK (in), 12 P2.7/XOUT (io), 13 P2.6/XIN/TA0.1 (io), 14 DVSS (power) "Ground reference"

## MSP430G2111TRSAQ1
designator U?
16 MHz Automotive Mixed Signal Microcontroller with 1 KB Flash, 128 B SRAM and 10 GPIOs, -40 to 105 degC, 16-pin QFN (RSA); Manufacturer: Texas Instruments; PartNumber: MSP430G2111TRSAQ1; ADC: Slope; Brown Out Reset: Yes; Eco-Plan: TBD; Flash(KB): 1; Frequency(MHz): 16; GPIO: 10; SRAM(B): 128; SubFamily: Value Line; USI: (I2C/SPI); DatasheetVersion: SLAS695G; PackageVersion: revD, Jun-2011; PackageReference: RSA16-2700X2700TP; PackageDescription: 16-Pin Plastic Quad Flatpack No-Lead 0.65 mm Pitch; Supplier 1: Mouser; Supplier Part Number 1: N/A; Comparators: Yes; Timers - 16-bit: 1; Watchdog: Yes; Mounting Technology: Surface Mount; Code_JEDEC: MO-220; ComponentLink1Description: Manufacturer URL; ComponentLink1URL: http://www.ti.com/; ComponentLink2Description: Datasheet; ComponentLink2URL: http://www.ti.com/lit/ds/symlink/msp430g2001.pdf; ComponentLink3Description: Package Specification; ComponentLink3URL: http://www.ti.com/litv/pdf/mpqf145c
footprint TI-RSA16-2700X2700TP (QFN, 16-Leads, Body 4x4mm, Pitch 0.65mm, Thermal Pad 2.7x2.7mm, TI Recommended)
pins: 1 P1.0/TA0CLK/ACLK/CA0 (io), 2 P1.1/TA0.0/CA1 (io), 3 P1.2/TA0.1/CA2 (io), 4 P1.3/CA3/CAOUT (io), 5 P1.4/SMCLK/CA4/TCK (io), 6 P1.5/TA0.0/CA5/TMS (io), 7 P1.6/TA0.1/CA6/TDI/TCLK (io), 8 P1.7/CA7/CAOUT/TDO/TDI (io), 9 ~{RST}/NMI/SBWTDIO (io), 10 TEST/SBWTCK (in), 11 P2.7/XOUT (io), 12 P2.6/TA0.1/XIN (io), 13 NC "Not connected", 14 DVSS (power) "Ground reference", 15 NC "Not connected", 16 DVCC (power) "Supply voltage", 17 EP (power) "QFN package pad connection to VSS recommended."

## MSP430G2112IN20
designator U?
16 MHz Mixed Signal Microcontroller with 1 KB Flash, 256 B SRAM and 16 GPIOs, 20-pin DIP (N), Pb-Free (RoHS); Manufacturer: Texas Instruments; PartNumber: MSP430G2112IN20; Brown Out Reset: Yes; Flash(KB): 1; Frequency(MHz): 16; SRAM(B): 256; SubFamily: Value Line; USI: (I2C/SPI); DatasheetVersion: SLAS722E; PackageVersion: 4040049/E; PackageReference: N20; PackageDescription: 20-Pin Plastic In-Line, Body 25.40 x 6.35 mm, Pitch 2.54 mm; Supplier 1: Digi-Key; Supplier Part Number 1: MSP430G2102IRSA16T-ND; Supplier 2: Farnell; Supplier Part Number 2: 1866832; Supplier 3: Newark; Supplier Part Number 3: 24T4633; Supplier 4: Mouser; Supplier Part Number 4: 595-P430G2102IRSA16T; Cap touch I/O: Yes; Comparators: Yes; Eco-Plan: Pb-Free (RoHS); GPIO: 16; Timers - 16-bit: 1; Watchdog: Yes; Mounting Technology: Through Hole; Code_JEDEC: MS-001; ComponentLink1Description: Manufacturer URL; ComponentLink1URL: http://www.ti.com/; ComponentLink2Description: Datasheet; ComponentLink2URL: http://www.ti.com/general/docs/lit/getliterature.tsp?genericPartNumber=MSP430G2112&fileType=pdf; ComponentLink3Description: Package Specification; ComponentLink3URL: http://www.ti.com/litv/pdf/mpds177g
footprint TI-N20 (DIP, 20-Leads, Body 25.4x6.35 mm, Pitch 2.54 mm)
pins: 1 DVCC (power) "Supply voltage", 2 P1.0/TA0CLK/ACLK/CA0 (io), 3 P1.1/TA0.0/CA1 (io), 4 P1.2/TA0.1/CA2 (io), 5 P1.3/CAOUT/CA3 (io), 6 P1.4/SMCLK/TA0.2/CA4/TCK (io), 7 P1.5/TA0.0/SCLK/CA5/TMS (io), 8 P2.0 (io) "General-purpose digital I/O pin", 9 P2.1 (io) "General-purpose digital I/O pin", 10 P2.2 (io) "General-purpose digital I/O pin", 11 P2.3 (io) "General-purpose digital I/O pin", 12 P2.4 (io) "General-purpose digital I/O pin", 13 P2.5 (io) "General-purpose digital I/O pin", 14 P1.6/TA0.1/SDO/SCL/CA6/TDI/TCLK (io), 15 P1.7/CAOUT/SDI/SDA/CA7/TDO/TDI (io), 16 ~{RST}/NMI/SBWTDIO (io), 17 TEST/SBWTCK (in), 18 P2.7/XOUT (io), 19 P2.6/XIN/TA0.1 (io), 20 DVSS (power) "Ground reference"